# Altium integrated library TI Logic Switch.IntLib: 125 symbols (part 2 of 3)
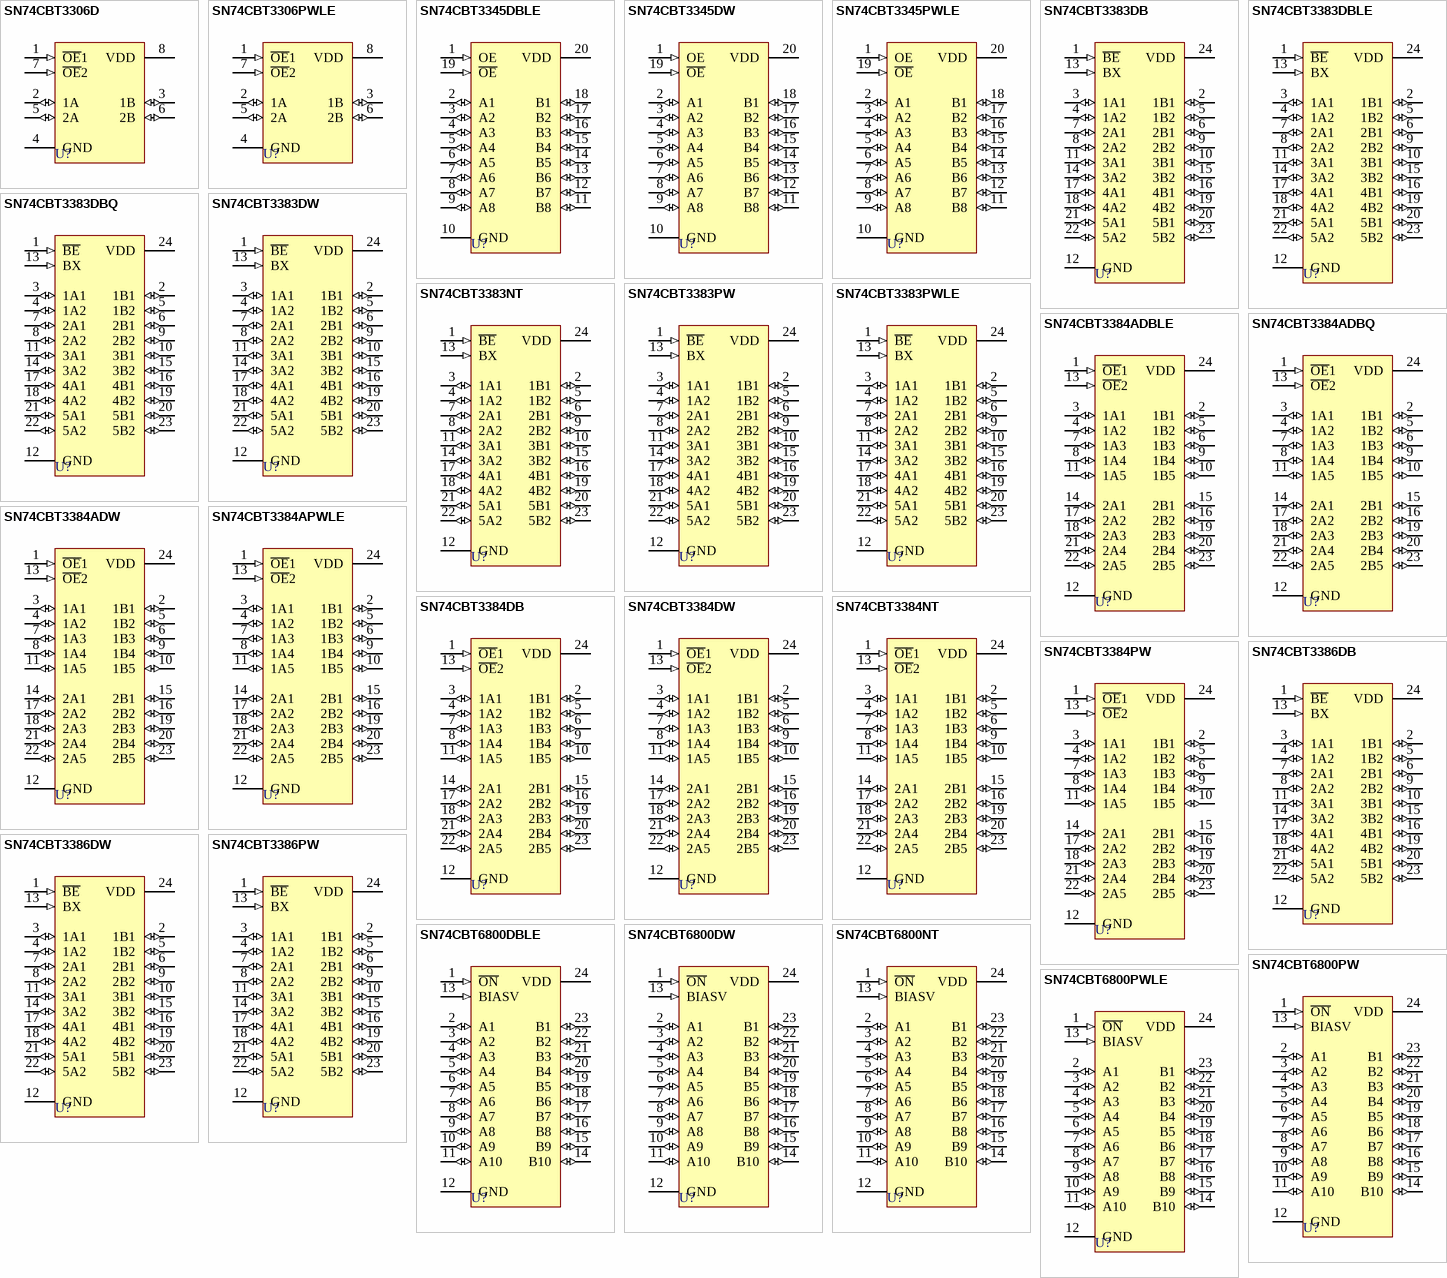
[diagram p6: symbols SN74CBT3306D to SN74CBT6800PWLE]

## SN74CBT3384NT
designator U?
Dual 5-Bit Crossbar Switch; Published: 8-Jun-2000; LatestRevisionDate: 04-Mar-2005; LatestRevisionNote: Stylized 3D Model Added.; DatasheetVersion: Apr-1993; PackageVersion: Oct-1994; PackageReference: NT024; Publisher: Altium Limited; PackageDescription: DIP; 24 Leads; Row Spacing 7.62 mm; Pitch 2.54 mm; Code_JEDEC: MS-001-AF; ComponentLink1Description: Manufacturer Link; ComponentLink1URL: http://www.ti.com/
footprint NT024 (DIP; 24 Leads; Row Spacing 7.62 mm; Pitch 2.54 mm)
3D model NT024 (DIP; 24 Leads; Row Spacing 7.62 mm; Pitch 2.54 mm)
pins: 1 ~{OE}1 (in), 2 1B1 (io), 3 1A1 (io), 4 1A2 (io), 5 1B2 (io), 6 1B3 (io), 7 1A3 (io), 8 1A4 (io), 9 1B4 (io), 10 1B5 (io), 11 1A5 (io), 12 GND (power), 13 ~{OE}2 (in), 14 2A1 (io), 15 2B1 (io), 16 2B2 (io), 17 2A2 (io), 18 2A3 (io), 19 2B3 (io), 20 2B4 (io), 21 2A4 (io), 22 2A5 (io), 23 2B5 (io), 24 VDD (power)

## SN74CBT3384PW
designator U?
10-Bit Crossbar Switch; ComponentAvailability: Obsolete; Published: 8-Jun-2000; LatestRevisionDate: 16-Oct-2006; LatestRevisionNote: IPC-7351 Footprint Added.; DatasheetVersion: Jun-1994; PackageVersion: Feb-1999; PackageReference: PW024; Publisher: Altium Limited; PackageDescription: 24-Pin Thin Small Outline Package 0.65 mm Pitch; ComponentLink1Description: Manufacturer Link; ComponentLink1URL: http://www.ti.com/
footprint PW024_N (TSOP, 24-Leads, Body 7.8x4.4mm, Pitch 0.65mm, IPC Medium Density)
footprint PW024_L (TSOP, 24-Leads, Body 7.8x4.4mm, Pitch 0.65mm, IPC High Density)
footprint PW024_M (TSOP, 24-Leads, Body 7.8x4.4mm, Pitch 0.65mm, IPC Low Density)
3D model PW024 (24-Pin Thin Small Outline Package 0.65 mm Pitch)
pins: 1 ~{OE}1 (in), 2 1B1 (io), 3 1A1 (io), 4 1A2 (io), 5 1B2 (io), 6 1B3 (io), 7 1A3 (io), 8 1A4 (io), 9 1B4 (io), 10 1B5 (io), 11 1A5 (io), 12 GND (power), 13 ~{OE}2 (in), 14 2A1 (io), 15 2B1 (io), 16 2B2 (io), 17 2A2 (io), 18 2A3 (io), 19 2B3 (io), 20 2B4 (io), 21 2A4 (io), 22 2A5 (io), 23 2B5 (io), 24 VDD (power)

## SN74CBT3386DB
designator U?
10-Bit FET Bus-Exchange Switch with Extended Voltage Range; Published: 8-Jun-2000; LatestRevisionDate: 16-Oct-2006; LatestRevisionNote: IPC-7351 Footprint Added.; DatasheetVersion: May-1998; PackageVersion: May-1999; PackageReference: DB024; Publisher: Altium Limited; PackageDescription: 24-Pin Plastic Small Outline Package 0.65 mm Pitch; Code_JEDEC: MO-150-AG; Code_IPC: SOP65P780-24; ComponentLink1Description: Manufacturer Link; ComponentLink1URL: http://www.ti.com/
footprint DB024_N (SOP, 24-Leads, Body 8.2x5.3mm, Pitch 0.65mm, IPC Medium Density)
footprint DB024_L (SOP, 24-Leads, Body 8.2x5.3mm, Pitch 0.65mm, IPC High Density)
footprint DB024_M (SOP, 24-Leads, Body 8.2x5.3mm, Pitch 0.65mm, IPC Low Density)
3D model DB024 (24-Pin Plastic Small Outline Package 0.65 mm Pitch)
pins: 1 ~{BE} (in), 2 1B1 (io), 3 1A1 (io), 4 1A2 (io), 5 1B2 (io), 6 2B1 (io), 7 2A1 (io), 8 2A2 (io), 9 2B2 (io), 10 3B1 (io), 11 3A1 (io), 12 GND (power), 13 BX (in), 14 3A2 (io), 15 3B2 (io), 16 4B1 (io), 17 4A1 (io), 18 4A2 (io), 19 4B2 (io), 20 5B1 (io), 21 5A1 (io), 22 5A2 (io), 23 5B2 (io), 24 VDD (power)

## SN74CBT3386DW
designator U?
10-Bit FET Bus-Exchange Switch with Extended Voltage Range; Published: 8-Jun-2000; LatestRevisionDate: 13-Apr-2006; LatestRevisionNote: IPC-7351 Footprint Added.; DatasheetVersion: May-1998; PackageVersion: Mar-2000; PackageReference: DW024; Publisher: Altium Limited; PackageDescription: 24-Pin Plastic Small Outline Integrated Circuit 1.27 mm Pitch; Code_JEDEC: MS-013; ComponentLink1Description: Manufacturer Link; ComponentLink1URL: http://www.ti.com/
footprint DW024_N (SOIC, 24-Leads, Body 15.4x7.5mm, Pitch 1.27mm, IPC Medium Density)
footprint DW024_L (SOIC, 24-Leads, Body 15.4x7.5mm, Pitch 1.27mm, IPC High Density)
footprint DW024_M (SOIC, 24-Leads, Body 15.4x7.5mm, Pitch 1.27mm, IPC Low Density)
3D model DW024 (24-Pin Plastic Small Outline Integrated Circuit 1.27 mm Pitch)
pins: 1 ~{BE} (in), 2 1B1 (io), 3 1A1 (io), 4 1A2 (io), 5 1B2 (io), 6 2B1 (io), 7 2A1 (io), 8 2A2 (io), 9 2B2 (io), 10 3B1 (io), 11 3A1 (io), 12 GND (power), 13 BX (in), 14 3A2 (io), 15 3B2 (io), 16 4B1 (io), 17 4A1 (io), 18 4A2 (io), 19 4B2 (io), 20 5B1 (io), 21 5A1 (io), 22 5A2 (io), 23 5B2 (io), 24 VDD (power)

## SN74CBT3386PW
designator U?
10-Bit FET Bus-Exchange Switch with Extended Voltage Range; Published: 8-Jun-2000; LatestRevisionDate: 16-Oct-2006; LatestRevisionNote: IPC-7351 Footprint Added.; DatasheetVersion: May-1998; PackageVersion: Feb-1999; PackageReference: PW024; Publisher: Altium Limited; PackageDescription: 24-Pin Thin Small Outline Package 0.65 mm Pitch; ComponentLink1Description: Manufacturer Link; ComponentLink1URL: http://www.ti.com/
footprint PW024_N (TSOP, 24-Leads, Body 7.8x4.4mm, Pitch 0.65mm, IPC Medium Density)
footprint PW024_L (TSOP, 24-Leads, Body 7.8x4.4mm, Pitch 0.65mm, IPC High Density)
footprint PW024_M (TSOP, 24-Leads, Body 7.8x4.4mm, Pitch 0.65mm, IPC Low Density)
3D model PW024 (24-Pin Thin Small Outline Package 0.65 mm Pitch)
pins: 1 ~{BE} (in), 2 1B1 (io), 3 1A1 (io), 4 1A2 (io), 5 1B2 (io), 6 2B1 (io), 7 2A1 (io), 8 2A2 (io), 9 2B2 (io), 10 3B1 (io), 11 3A1 (io), 12 GND (power), 13 BX (in), 14 3A2 (io), 15 3B2 (io), 16 4B1 (io), 17 4A1 (io), 18 4A2 (io), 19 4B2 (io), 20 5B1 (io), 21 5A1 (io), 22 5A2 (io), 23 5B2 (io), 24 VDD (power)

## SN74CBT6800DBLE
designator U?
10-Bit FET Bus Switch with Precharged Outputs for Live Insertion; Published: 8-Jun-2000; LatestRevisionDate: 16-Oct-2006; LatestRevisionNote: IPC-7351 Footprint Added.; DatasheetVersion: Dec-1998; PackageVersion: May-1999; PackageReference: DB024; Publisher: Altium Limited; PackageDescription: 24-Pin Plastic Small Outline Package 0.65 mm Pitch; Code_JEDEC: MO-150-AG; Code_IPC: SOP65P780-24; ComponentLink1Description: Manufacturer Link; ComponentLink1URL: http://www.ti.com/
footprint DB024_N (SOP, 24-Leads, Body 8.2x5.3mm, Pitch 0.65mm, IPC Medium Density)
footprint DB024_L (SOP, 24-Leads, Body 8.2x5.3mm, Pitch 0.65mm, IPC High Density)
footprint DB024_M (SOP, 24-Leads, Body 8.2x5.3mm, Pitch 0.65mm, IPC Low Density)
3D model DB024 (24-Pin Plastic Small Outline Package 0.65 mm Pitch)
pins: 1 ~{ON} (in), 2 A1 (io), 3 A2 (io), 4 A3 (io), 5 A4 (io), 6 A5 (io), 7 A6 (io), 8 A7 (io), 9 A8 (io), 10 A9 (io), 11 A10 (io), 12 GND (power), 13 BIASV (in), 14 B10 (io), 15 B9 (io), 16 B8 (io), 17 B7 (io), 18 B6 (io), 19 B5 (io), 20 B4 (io), 21 B3 (io), 22 B2 (io), 23 B1 (io), 24 VDD (power)

## SN74CBT6800DW
designator U?
10-Bit FET Bus Switch with Precharged Outputs for Live Insertion; Published: 8-Jun-2000; LatestRevisionDate: 13-Apr-2006; LatestRevisionNote: IPC-7351 Footprint Added.; DatasheetVersion: Dec-1998; PackageVersion: Mar-2000; PackageReference: DW024; Publisher: Altium Limited; PackageDescription: 24-Pin Plastic Small Outline Integrated Circuit 1.27 mm Pitch; Code_JEDEC: MS-013; ComponentLink1Description: Manufacturer Link; ComponentLink1URL: http://www.ti.com/
footprint DW024_N (SOIC, 24-Leads, Body 15.4x7.5mm, Pitch 1.27mm, IPC Medium Density)
footprint DW024_L (SOIC, 24-Leads, Body 15.4x7.5mm, Pitch 1.27mm, IPC High Density)
footprint DW024_M (SOIC, 24-Leads, Body 15.4x7.5mm, Pitch 1.27mm, IPC Low Density)
3D model DW024 (24-Pin Plastic Small Outline Integrated Circuit 1.27 mm Pitch)
pins: 1 ~{ON} (in), 2 A1 (io), 3 A2 (io), 4 A3 (io), 5 A4 (io), 6 A5 (io), 7 A6 (io), 8 A7 (io), 9 A8 (io), 10 A9 (io), 11 A10 (io), 12 GND (power), 13 BIASV (in), 14 B10 (io), 15 B9 (io), 16 B8 (io), 17 B7 (io), 18 B6 (io), 19 B5 (io), 20 B4 (io), 21 B3 (io), 22 B2 (io), 23 B1 (io), 24 VDD (power)

## SN74CBT6800NT
designator U?
10-Bit Crossover Switch with Precharged Outputs for Live Insertion; Published: 8-Jun-2000; LatestRevisionDate: 04-Mar-2005; LatestRevisionNote: Stylized 3D Model Added.; DatasheetVersion: Apr-1993; PackageVersion: Oct-1994; PackageReference: NT024; Publisher: Altium Limited; PackageDescription: DIP; 24 Leads; Row Spacing 7.62 mm; Pitch 2.54 mm; Code_JEDEC: MS-001-AF; ComponentLink1Description: Manufacturer Link; ComponentLink1URL: http://www.ti.com/
footprint NT024 (DIP; 24 Leads; Row Spacing 7.62 mm; Pitch 2.54 mm)
3D model NT024 (DIP; 24 Leads; Row Spacing 7.62 mm; Pitch 2.54 mm)
pins: 1 ~{ON} (in), 2 A1 (io), 3 A2 (io), 4 A3 (io), 5 A4 (io), 6 A5 (io), 7 A6 (io), 8 A7 (io), 9 A8 (io), 10 A9 (io), 11 A10 (io), 12 GND (power), 13 BIASV (in), 14 B10 (io), 15 B9 (io), 16 B8 (io), 17 B7 (io), 18 B6 (io), 19 B5 (io), 20 B4 (io), 21 B3 (io), 22 B2 (io), 23 B1 (io), 24 VDD (power)

## SN74CBT6800PW
designator U?
10-Bit FET Bus Switch with Precharged Outputs for Live Insertion; Published: 8-Jun-2000; LatestRevisionDate: 16-Oct-2006; LatestRevisionNote: IPC-7351 Footprint Added.; DatasheetVersion: Dec-1998; PackageVersion: Feb-1999; PackageReference: PW024; Publisher: Altium Limited; PackageDescription: 24-Pin Thin Small Outline Package 0.65 mm Pitch; ComponentLink1Description: Manufacturer Link; ComponentLink1URL: http://www.ti.com/
footprint PW024_N (TSOP, 24-Leads, Body 7.8x4.4mm, Pitch 0.65mm, IPC Medium Density)
footprint PW024_L (TSOP, 24-Leads, Body 7.8x4.4mm, Pitch 0.65mm, IPC High Density)
footprint PW024_M (TSOP, 24-Leads, Body 7.8x4.4mm, Pitch 0.65mm, IPC Low Density)
3D model PW024 (24-Pin Thin Small Outline Package 0.65 mm Pitch)
pins: 1 ~{ON} (in), 2 A1 (io), 3 A2 (io), 4 A3 (io), 5 A4 (io), 6 A5 (io), 7 A6 (io), 8 A7 (io), 9 A8 (io), 10 A9 (io), 11 A10 (io), 12 GND (power), 13 BIASV (in), 14 B10 (io), 15 B9 (io), 16 B8 (io), 17 B7 (io), 18 B6 (io), 19 B5 (io), 20 B4 (io), 21 B3 (io), 22 B2 (io), 23 B1 (io), 24 VDD (power)

## SN74CBT6800PWLE
designator U?
10-Bit FET Bus Switch with Precharged Outputs for Live Insertion; Published: 8-Jun-2000; LatestRevisionDate: 16-Oct-2006; LatestRevisionNote: IPC-7351 Footprint Added.; DatasheetVersion: Dec-1998; PackageVersion: Feb-1999; PackageReference: PW024; Publisher: Altium Limited; PackageDescription: 24-Pin Thin Small Outline Package 0.65 mm Pitch; ComponentLink1Description: Manufacturer Link; ComponentLink1URL: http://www.ti.com/
footprint PW024_N (TSOP, 24-Leads, Body 7.8x4.4mm, Pitch 0.65mm, IPC Medium Density)
footprint PW024_L (TSOP, 24-Leads, Body 7.8x4.4mm, Pitch 0.65mm, IPC High Density)
footprint PW024_M (TSOP, 24-Leads, Body 7.8x4.4mm, Pitch 0.65mm, IPC Low Density)
3D model PW024 (24-Pin Thin Small Outline Package 0.65 mm Pitch)
pins: 1 ~{ON} (in), 2 A1 (io), 3 A2 (io), 4 A3 (io), 5 A4 (io), 6 A5 (io), 7 A6 (io), 8 A7 (io), 9 A8 (io), 10 A9 (io), 11 A10 (io), 12 GND (power), 13 BIASV (in), 14 B10 (io), 15 B9 (io), 16 B8 (io), 17 B7 (io), 18 B6 (io), 19 B5 (io), 20 B4 (io), 21 B3 (io), 22 B2 (io), 23 B1 (io), 24 VDD (power)

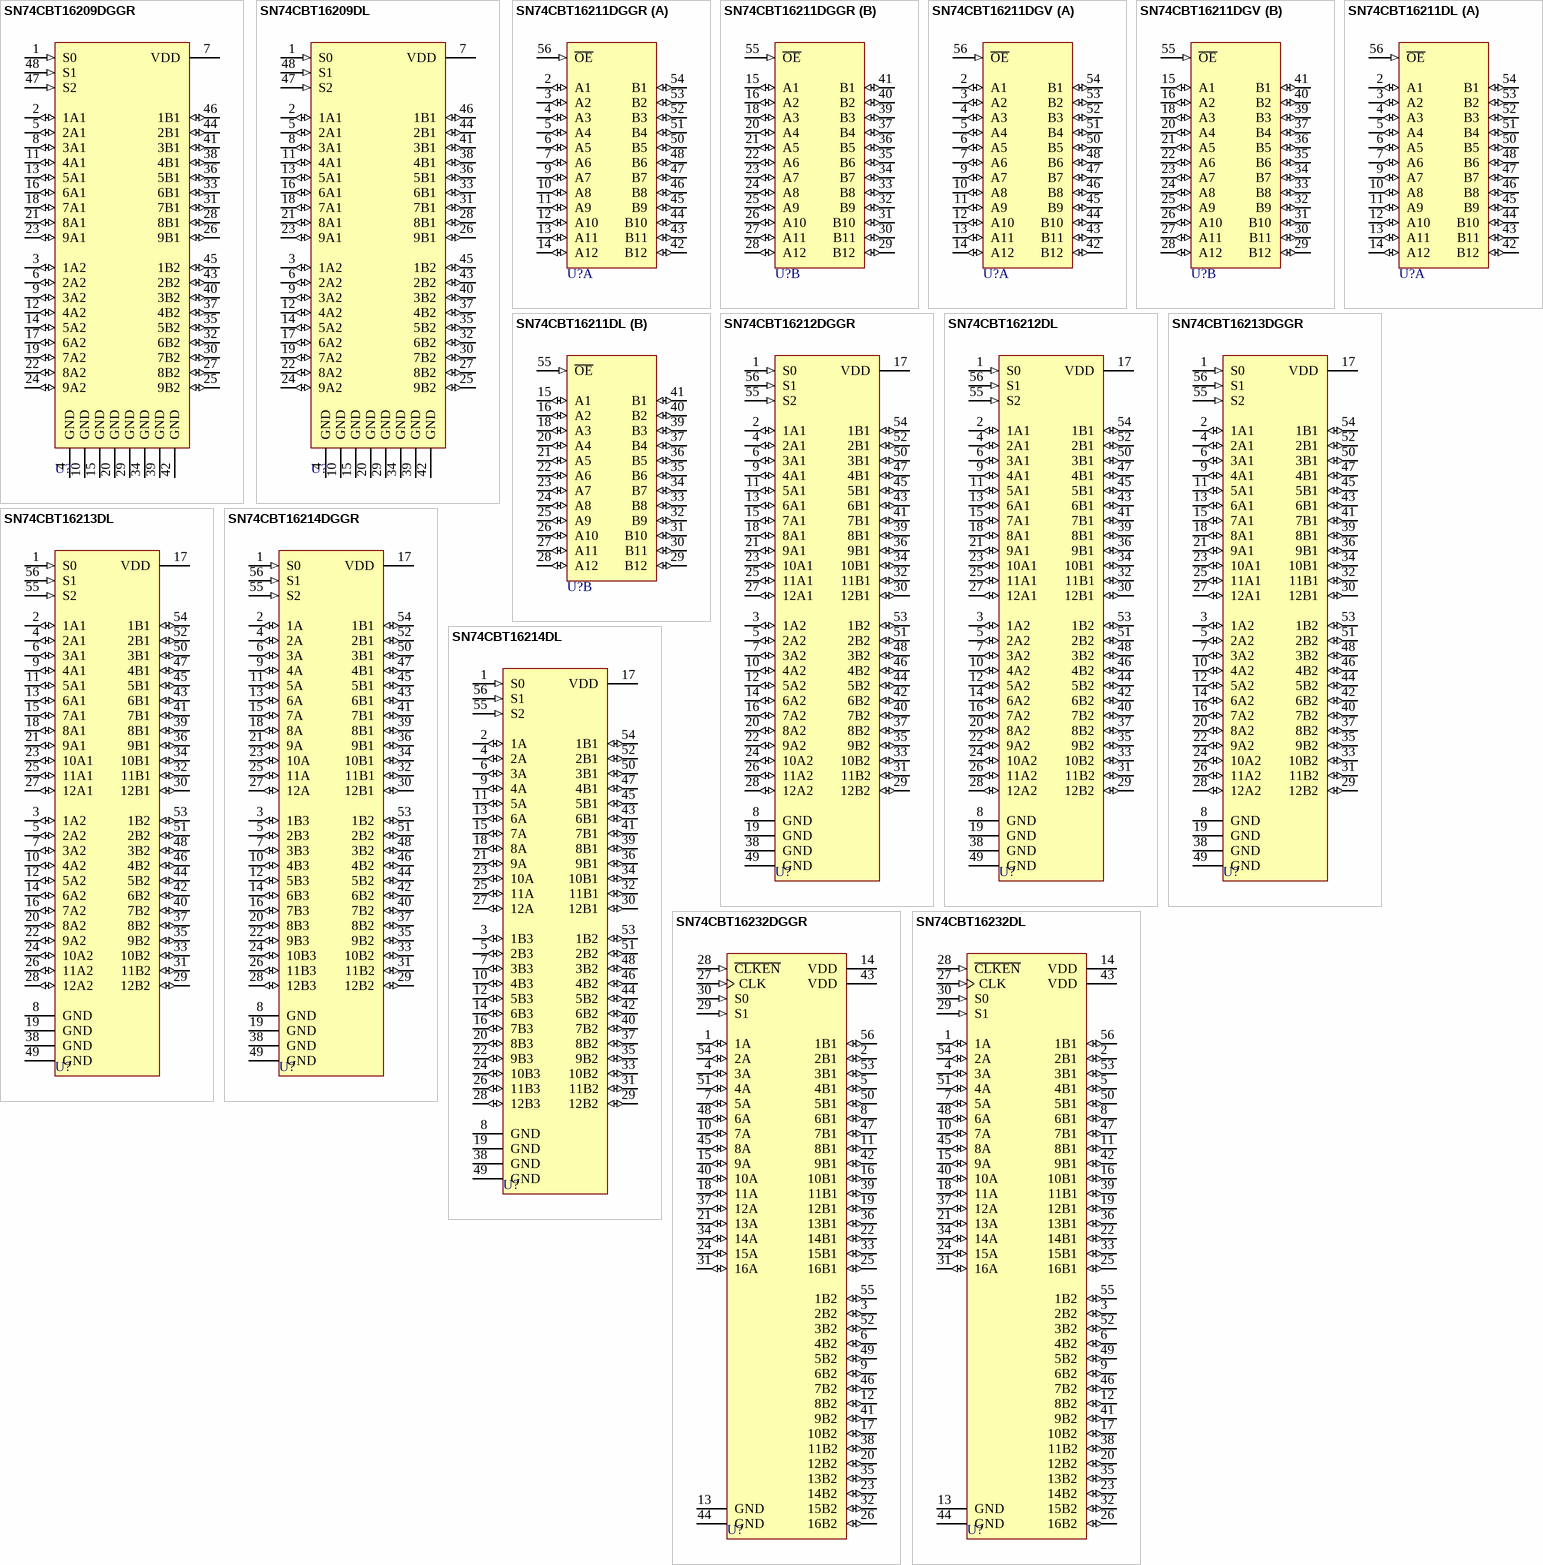
[diagram p2: symbols SN74CBT16209DGGR to SN74CBT16232DL]

## SN74CBT16209DGGR
designator U?
18-Bit Bus-Exchange Switch; ComponentAvailability: Obsolete; Published: 8-Jun-2000; LatestRevisionDate: 16-Oct-2006; LatestRevisionNote: IPC-7351 Footprint Added.; DatasheetVersion: Jun-1996; PackageVersion: Jan-1998; PackageReference: DGG048; Publisher: Altium Limited; PackageDescription: 48-Pin Thin Shrink Small Outline Package 0.5 mm Pitch; ComponentLink1Description: Manufacturer Link; ComponentLink1URL: http://www.ti.com/; ComponentLink2Description: Datasheet; ComponentLink2URL: http://www-s.ti.com/sc/ds/sn54cbt16209.pdf
footprint DGG048_N (TSSOP, 48-Leads, Body 12.5x6.1mm, Pitch 0.5mm, IPC Medium Density)
footprint DGG048_L (TSSOP, 48-Leads, Body 12.5x6.1mm, Pitch 0.5mm, IPC High Density)
footprint DGG048_M (TSSOP, 48-Leads, Body 12.5x6.1mm, Pitch 0.5mm, IPC Low Density)
3D model DGG048 (48-Pin Thin Shrink Small Outline Package 0.5 mm Pitch)
pins: 1 S0 (in), 2 1A1 (io), 3 1A2 (io), 4 GND (power), 5 2A1 (io), 6 2A2 (io), 7 VDD (power), 8 3A1 (io), 9 3A2 (io), 10 GND (power), 11 4A1 (io), 12 4A2 (io), 13 5A1 (io), 14 5A2 (io), 15 GND (power), 16 6A1 (io), 17 6A2 (io), 18 7A1 (io), 19 7A2 (io), 20 GND (power), 21 8A1 (io), 22 8A2 (io), 23 9A1 (io), 24 9A2 (io), 25 9B2 (io), 26 9B1 (io), 27 8B2 (io), 28 8B1 (io), 29 GND (power), 30 7B2 (io), 31 7B1 (io), 32 6B2 (io), 33 6B1 (io), 34 GND (power), 35 5B2 (io), 36 5B1 (io), 37 4B2 (io), 38 4B1 (io), 39 GND (power), 40 3B2 (io), 41 3B1 (io), 42 GND (power), 43 2B2 (io), 44 2B1 (io), 45 1B2 (io), 46 1B1 (io), 47 S2 (in), 48 S1 (in)

## SN74CBT16209DL
designator U?
18-Bit Bus-Exchange Switch; ComponentAvailability: Obsolete; Published: 8-Jun-2000; LatestRevisionDate: 16-Oct-2006; LatestRevisionNote: IPC-7351 Footprint Added.; DatasheetVersion: Jun-1996; PackageVersion: Dec-2001; PackageReference: DL048; Publisher: Altium Limited; PackageDescription: 48-Pin Small Outline Package 0.635 mm Pitch; Code_JEDEC: MO-118-AA; Code_IPC: SOP635P1035-48; ComponentLink1Description: Manufacturer Link; ComponentLink1URL: http://www.ti.com/; ComponentLink2Description: Datasheet; ComponentLink2URL: http://www-s.ti.com/sc/ds/sn54cbt16209.pdf
footprint DL048_N (SOP, 48-Leads, Body 15.9x7.5mm, Pitch 0.635mm, IPC Medium Density)
footprint DL048_L (SOP, 48-Leads, Body 15.9x7.5mm, Pitch 0.635mm, IPC High Density)
footprint DL048_M (SOP, 48-Leads, Body 15.9x7.5mm, Pitch 0.635mm, IPC Low Density)
3D model DL048 (48-Pin Small Outline Package 0.635 mm Pitch)
pins: 1 S0 (in), 2 1A1 (io), 3 1A2 (io), 4 GND (power), 5 2A1 (io), 6 2A2 (io), 7 VDD (power), 8 3A1 (io), 9 3A2 (io), 10 GND (power), 11 4A1 (io), 12 4A2 (io), 13 5A1 (io), 14 5A2 (io), 15 GND (power), 16 6A1 (io), 17 6A2 (io), 18 7A1 (io), 19 7A2 (io), 20 GND (power), 21 8A1 (io), 22 8A2 (io), 23 9A1 (io), 24 9A2 (io), 25 9B2 (io), 26 9B1 (io), 27 8B2 (io), 28 8B1 (io), 29 GND (power), 30 7B2 (io), 31 7B1 (io), 32 6B2 (io), 33 6B1 (io), 34 GND (power), 35 5B2 (io), 36 5B1 (io), 37 4B2 (io), 38 4B1 (io), 39 GND (power), 40 3B2 (io), 41 3B1 (io), 42 GND (power), 43 2B2 (io), 44 2B1 (io), 45 1B2 (io), 46 1B1 (io), 47 S2 (in), 48 S1 (in)

## SN74CBT16211DGGR
designator U?
24-Bit Bus Switch; Note: Pin(s) 1 "No Connection" and not drawn.; ComponentAvailability: Obsolete; Published: 8-Jun-2000; LatestRevisionDate: 16-Oct-2006; LatestRevisionNote: IPC-7351 Footprint Added.; DatasheetVersion: Apr-1997; PackageVersion: Jan-1998; PackageReference: DGG056; Publisher: Altium Limited; PackageDescription: 56-Pin Thin Shrink Small Outline Package 0.5 mm Pitch; Code_IPC: TSSOP50P810-56; ComponentLink1Description: Manufacturer Link; ComponentLink1URL: http://www.ti.com/
footprint DGG056_N (TSSOP, 56-Leads, Body 14x6.1mm, Pitch 0.5mm, IPC Medium Density)
footprint DGG056_L (TSSOP, 56-Leads, Body 14x6.1mm, Pitch 0.5mm, IPC High Density)
footprint DGG056_M (TSSOP, 56-Leads, Body 14x6.1mm, Pitch 0.5mm, IPC Low Density)
3D model DGG056 (56-Pin Thin Shrink Small Outline Package 0.5 mm Pitch)
pins on every part: 8 GND (power) hidden to GND, 17 VDD (power) hidden to VDD, 19 GND (power) hidden to GND, 38 GND (power) hidden to GND, 49 GND (power) hidden to GND
part A pins: 2 A1 (io), 3 A2 (io), 4 A3 (io), 5 A4 (io), 6 A5 (io), 7 A6 (io), 9 A7 (io), 10 A8 (io), 11 A9 (io), 12 A10 (io), 13 A11 (io), 14 A12 (io), 42 B12 (io), 43 B11 (io), 44 B10 (io), 45 B9 (io), 46 B8 (io), 47 B7 (io), 48 B6 (io), 50 B5 (io), 51 B4 (io), 52 B3 (io), 53 B2 (io), 54 B1 (io), 56 ~{OE} (in)
part B pins: 15 A1 (io), 16 A2 (io), 18 A3 (io), 20 A4 (io), 21 A5 (io), 22 A6 (io), 23 A7 (io), 24 A8 (io), 25 A9 (io), 26 A10 (io), 27 A11 (io), 28 A12 (io), 29 B12 (io), 30 B11 (io), 31 B10 (io), 32 B9 (io), 33 B8 (io), 34 B7 (io), 35 B6 (io), 36 B5 (io), 37 B4 (io), 39 B3 (io), 40 B2 (io), 41 B1 (io), 55 ~{OE} (in)

## SN74CBT16211DGV
designator U?
24-Bit Bus Switch; Note: Pin(s) 1 "No Connection" and not drawn.; ComponentAvailability: Obsolete; Published: 8-Jun-2000; LatestRevisionDate: 16-Oct-2006; LatestRevisionNote: IPC-7351 Footprint Added.; DatasheetVersion: Apr-1997; PackageVersion: Mar-1999; PackageReference: DGV056; Publisher: Altium Limited; PackageDescription: 56-Pin Thin Shrink Small Outline Package 0.4 mm Pitch; Code_JEDEC: MO-194; ComponentLink1Description: Manufacturer Link; ComponentLink1URL: http://www.ti.com/
footprint DGV056_N (TSSOP, 56-Leads, Body 11.3x4.4mm, Pitch 0.4mm, IPC Medium Density)
footprint DGV056_L (TSSOP, 56-Leads, Body 11.3x4.4mm, Pitch 0.4mm, IPC High Density)
footprint DGV056_M (TSSOP, 56-Leads, Body 11.3x4.4mm, Pitch 0.4mm, IPC Low Density)
3D model DGV056 (56-Pin Thin Shrink Small Outline Package 0.4 mm Pitch)
pins on every part: 8 GND (power) hidden to GND, 17 VDD (power) hidden to VDD, 19 GND (power) hidden to GND, 38 GND (power) hidden to GND, 49 GND (power) hidden to GND
part A pins: 2 A1 (io), 3 A2 (io), 4 A3 (io), 5 A4 (io), 6 A5 (io), 7 A6 (io), 9 A7 (io), 10 A8 (io), 11 A9 (io), 12 A10 (io), 13 A11 (io), 14 A12 (io), 42 B12 (io), 43 B11 (io), 44 B10 (io), 45 B9 (io), 46 B8 (io), 47 B7 (io), 48 B6 (io), 50 B5 (io), 51 B4 (io), 52 B3 (io), 53 B2 (io), 54 B1 (io), 56 ~{OE} (in)
part B pins: 15 A1 (io), 16 A2 (io), 18 A3 (io), 20 A4 (io), 21 A5 (io), 22 A6 (io), 23 A7 (io), 24 A8 (io), 25 A9 (io), 26 A10 (io), 27 A11 (io), 28 A12 (io), 29 B12 (io), 30 B11 (io), 31 B10 (io), 32 B9 (io), 33 B8 (io), 34 B7 (io), 35 B6 (io), 36 B5 (io), 37 B4 (io), 39 B3 (io), 40 B2 (io), 41 B1 (io), 55 ~{OE} (in)

## SN74CBT16211DL
designator U?
24-Bit Bus Switch; Note: Pin(s) 1 "No Connection" and not drawn.; ComponentAvailability: Obsolete; Published: 8-Jun-2000; LatestRevisionDate: 16-Oct-2006; LatestRevisionNote: IPC-7351 Footprint Added.; DatasheetVersion: Apr-1997; PackageVersion: Dec-2001; PackageReference: DL056; Publisher: Altium Limited; PackageDescription: 56-Pin Small Outline Package 0.635 mm Pitch; Code_JEDEC: MO-118-AB; Code_IPC: SOP635P1035-56; ComponentLink1Description: Manufacturer Link; ComponentLink1URL: http://www.ti.com/
footprint DL056_N (SOP, 56-Leads, Body 18.4x7.5mm, Pitch 0.635mm, IPC Medium Density)
footprint DL056_L (SOP, 56-Leads, Body 18.4x7.5mm, Pitch 0.635mm, IPC High Density)
footprint DL056_M (SOP, 56-Leads, Body 18.4x7.5mm, Pitch 0.635mm, IPC Low Density)
3D model DL056 (56-Pin Small Outline Package 0.635 mm Pitch)
pins on every part: 8 GND (power) hidden to GND, 17 VDD (power) hidden to VDD, 19 GND (power) hidden to GND, 38 GND (power) hidden to GND, 49 GND (power) hidden to GND
part A pins: 2 A1 (io), 3 A2 (io), 4 A3 (io), 5 A4 (io), 6 A5 (io), 7 A6 (io), 9 A7 (io), 10 A8 (io), 11 A9 (io), 12 A10 (io), 13 A11 (io), 14 A12 (io), 42 B12 (io), 43 B11 (io), 44 B10 (io), 45 B9 (io), 46 B8 (io), 47 B7 (io), 48 B6 (io), 50 B5 (io), 51 B4 (io), 52 B3 (io), 53 B2 (io), 54 B1 (io), 56 ~{OE} (in)
part B pins: 15 A1 (io), 16 A2 (io), 18 A3 (io), 20 A4 (io), 21 A5 (io), 22 A6 (io), 23 A7 (io), 24 A8 (io), 25 A9 (io), 26 A10 (io), 27 A11 (io), 28 A12 (io), 29 B12 (io), 30 B11 (io), 31 B10 (io), 32 B9 (io), 33 B8 (io), 34 B7 (io), 35 B6 (io), 36 B5 (io), 37 B4 (io), 39 B3 (io), 40 B2 (io), 41 B1 (io), 55 ~{OE} (in)

## SN74CBT16212DGGR
designator U?
24-Bit Bus-Exchange Switch; ComponentAvailability: Obsolete; Published: 8-Jun-2000; LatestRevisionDate: 16-Oct-2006; LatestRevisionNote: IPC-7351 Footprint Added.; DatasheetVersion: Aug-1996; PackageVersion: Jan-1998; PackageReference: DGG056; Publisher: Altium Limited; PackageDescription: 56-Pin Thin Shrink Small Outline Package 0.5 mm Pitch; Code_IPC: TSSOP50P810-56; ComponentLink1Description: Manufacturer Link; ComponentLink1URL: http://www.ti.com/
footprint DGG056_N (TSSOP, 56-Leads, Body 14x6.1mm, Pitch 0.5mm, IPC Medium Density)
footprint DGG056_L (TSSOP, 56-Leads, Body 14x6.1mm, Pitch 0.5mm, IPC High Density)
footprint DGG056_M (TSSOP, 56-Leads, Body 14x6.1mm, Pitch 0.5mm, IPC Low Density)
3D model DGG056 (56-Pin Thin Shrink Small Outline Package 0.5 mm Pitch)
pins: 1 S0 (in), 2 1A1 (io), 3 1A2 (io), 4 2A1 (io), 5 2A2 (io), 6 3A1 (io), 7 3A2 (io), 8 GND (power), 9 4A1 (io), 10 4A2 (io), 11 5A1 (io), 12 5A2 (io), 13 6A1 (io), 14 6A2 (io), 15 7A1 (io), 16 7A2 (io), 17 VDD (power), 18 8A1 (io), 19 GND (power), 20 8A2 (io), 21 9A1 (io), 22 9A2 (io), 23 10A1 (io), 24 10A2 (io), 25 11A1 (io), 26 11A2 (io), 27 12A1 (io), 28 12A2 (io), 29 12B2 (io), 30 12B1 (io), 31 11B2 (io), 32 11B1 (io), 33 10B2 (io), 34 10B1 (io), 35 9B2 (io), 36 9B1 (io), 37 8B2 (io), 38 GND (power), 39 8B1 (io), 40 7B2 (io), 41 7B1 (io), 42 6B2 (io), 43 6B1 (io), 44 5B2 (io), 45 5B1 (io), 46 4B2 (io), 47 4B1 (io), 48 3B2 (io), 49 GND (power), 50 3B1 (io), 51 2B2 (io), 52 2B1 (io), 53 1B2 (io), 54 1B1 (io), 55 S2 (in), 56 S1 (in)

## SN74CBT16212DL
designator U?
24-Bit Bus-Exchange Switch; ComponentAvailability: Obsolete; Published: 8-Jun-2000; LatestRevisionDate: 16-Oct-2006; LatestRevisionNote: IPC-7351 Footprint Added.; DatasheetVersion: Aug-1996; PackageVersion: Dec-2001; PackageReference: DL056; Publisher: Altium Limited; PackageDescription: 56-Pin Small Outline Package 0.635 mm Pitch; Code_JEDEC: MO-118-AB; Code_IPC: SOP635P1035-56; ComponentLink1Description: Manufacturer Link; ComponentLink1URL: http://www.ti.com/
footprint DL056_N (SOP, 56-Leads, Body 18.4x7.5mm, Pitch 0.635mm, IPC Medium Density)
footprint DL056_L (SOP, 56-Leads, Body 18.4x7.5mm, Pitch 0.635mm, IPC High Density)
footprint DL056_M (SOP, 56-Leads, Body 18.4x7.5mm, Pitch 0.635mm, IPC Low Density)
3D model DL056 (56-Pin Small Outline Package 0.635 mm Pitch)
pins: 1 S0 (in), 2 1A1 (io), 3 1A2 (io), 4 2A1 (io), 5 2A2 (io), 6 3A1 (io), 7 3A2 (io), 8 GND (power), 9 4A1 (io), 10 4A2 (io), 11 5A1 (io), 12 5A2 (io), 13 6A1 (io), 14 6A2 (io), 15 7A1 (io), 16 7A2 (io), 17 VDD (power), 18 8A1 (io), 19 GND (power), 20 8A2 (io), 21 9A1 (io), 22 9A2 (io), 23 10A1 (io), 24 10A2 (io), 25 11A1 (io), 26 11A2 (io), 27 12A1 (io), 28 12A2 (io), 29 12B2 (io), 30 12B1 (io), 31 11B2 (io), 32 11B1 (io), 33 10B2 (io), 34 10B1 (io), 35 9B2 (io), 36 9B1 (io), 37 8B2 (io), 38 GND (power), 39 8B1 (io), 40 7B2 (io), 41 7B1 (io), 42 6B2 (io), 43 6B1 (io), 44 5B2 (io), 45 5B1 (io), 46 4B2 (io), 47 4B1 (io), 48 3B2 (io), 49 GND (power), 50 3B1 (io), 51 2B2 (io), 52 2B1 (io), 53 1B2 (io), 54 1B1 (io), 55 S2 (in), 56 S1 (in)

## SN74CBT16213DGGR
designator U?
24-Bit FET Bus-Exchange Switch; Published: 8-Jun-2000; LatestRevisionDate: 16-Oct-2006; LatestRevisionNote: IPC-7351 Footprint Added.; DatasheetVersion: May-1998; PackageVersion: Jan-1998; PackageReference: DGG056; Publisher: Altium Limited; PackageDescription: 56-Pin Thin Shrink Small Outline Package 0.5 mm Pitch; Code_IPC: TSSOP50P810-56; ComponentLink1Description: Manufacturer Link; ComponentLink1URL: http://www.ti.com/; ComponentLink2Description: Datasheet; ComponentLink2URL: http://www-s.ti.com/sc/ds/sn74cbt16213.pdf
footprint DGG056_N (TSSOP, 56-Leads, Body 14x6.1mm, Pitch 0.5mm, IPC Medium Density)
footprint DGG056_L (TSSOP, 56-Leads, Body 14x6.1mm, Pitch 0.5mm, IPC High Density)
footprint DGG056_M (TSSOP, 56-Leads, Body 14x6.1mm, Pitch 0.5mm, IPC Low Density)
3D model DGG056 (56-Pin Thin Shrink Small Outline Package 0.5 mm Pitch)
pins: 1 S0 (in), 2 1A1 (io), 3 1A2 (io), 4 2A1 (io), 5 2A2 (io), 6 3A1 (io), 7 3A2 (io), 8 GND (power), 9 4A1 (io), 10 4A2 (io), 11 5A1 (io), 12 5A2 (io), 13 6A1 (io), 14 6A2 (io), 15 7A1 (io), 16 7A2 (io), 17 VDD (power), 18 8A1 (io), 19 GND (power), 20 8A2 (io), 21 9A1 (io), 22 9A2 (io), 23 10A1 (io), 24 10A2 (io), 25 11A1 (io), 26 11A2 (io), 27 12A1 (io), 28 12A2 (io), 29 12B2 (io), 30 12B1 (io), 31 11B2 (io), 32 11B1 (io), 33 10B2 (io), 34 10B1 (io), 35 9B2 (io), 36 9B1 (io), 37 8B2 (io), 38 GND (power), 39 8B1 (io), 40 7B2 (io), 41 7B1 (io), 42 6B2 (io), 43 6B1 (io), 44 5B2 (io), 45 5B1 (io), 46 4B2 (io), 47 4B1 (io), 48 3B2 (io), 49 GND (power), 50 3B1 (io), 51 2B2 (io), 52 2B1 (io), 53 1B2 (io), 54 1B1 (io), 55 S2 (in), 56 S1 (in)

## SN74CBT16213DL
designator U?
24-Bit FET Bus-Exchange Switch; Published: 8-Jun-2000; LatestRevisionDate: 16-Oct-2006; LatestRevisionNote: IPC-7351 Footprint Added.; DatasheetVersion: May-1998; PackageVersion: Dec-2001; PackageReference: DL056; Publisher: Altium Limited; PackageDescription: 56-Pin Small Outline Package 0.635 mm Pitch; Code_JEDEC: MO-118-AB; Code_IPC: SOP635P1035-56; ComponentLink1Description: Manufacturer Link; ComponentLink1URL: http://www.ti.com/; ComponentLink2Description: Datasheet; ComponentLink2URL: http://www-s.ti.com/sc/ds/sn74cbt16213.pdf
footprint DL056_N (SOP, 56-Leads, Body 18.4x7.5mm, Pitch 0.635mm, IPC Medium Density)
footprint DL056_L (SOP, 56-Leads, Body 18.4x7.5mm, Pitch 0.635mm, IPC High Density)
footprint DL056_M (SOP, 56-Leads, Body 18.4x7.5mm, Pitch 0.635mm, IPC Low Density)
3D model DL056 (56-Pin Small Outline Package 0.635 mm Pitch)
pins: 1 S0 (in), 2 1A1 (io), 3 1A2 (io), 4 2A1 (io), 5 2A2 (io), 6 3A1 (io), 7 3A2 (io), 8 GND (power), 9 4A1 (io), 10 4A2 (io), 11 5A1 (io), 12 5A2 (io), 13 6A1 (io), 14 6A2 (io), 15 7A1 (io), 16 7A2 (io), 17 VDD (power), 18 8A1 (io), 19 GND (power), 20 8A2 (io), 21 9A1 (io), 22 9A2 (io), 23 10A1 (io), 24 10A2 (io), 25 11A1 (io), 26 11A2 (io), 27 12A1 (io), 28 12A2 (io), 29 12B2 (io), 30 12B1 (io), 31 11B2 (io), 32 11B1 (io), 33 10B2 (io), 34 10B1 (io), 35 9B2 (io), 36 9B1 (io), 37 8B2 (io), 38 GND (power), 39 8B1 (io), 40 7B2 (io), 41 7B1 (io), 42 6B2 (io), 43 6B1 (io), 44 5B2 (io), 45 5B1 (io), 46 4B2 (io), 47 4B1 (io), 48 3B2 (io), 49 GND (power), 50 3B1 (io), 51 2B2 (io), 52 2B1 (io), 53 1B2 (io), 54 1B1 (io), 55 S2 (in), 56 S1 (in)

## SN74CBT16214DGGR
designator U?
12-Bit 1-of-3 FET Multiplexer/Demultiplexer; Published: 8-Jun-2000; LatestRevisionDate: 16-Oct-2006; LatestRevisionNote: IPC-7351 Footprint Added.; DatasheetVersion: May-1998; PackageVersion: Jan-1998; PackageReference: DGG056; Publisher: Altium Limited; PackageDescription: 56-Pin Thin Shrink Small Outline Package 0.5 mm Pitch; Code_IPC: TSSOP50P810-56; ComponentLink1Description: Manufacturer Link; ComponentLink1URL: http://www.ti.com/; ComponentLink2Description: Datasheet; ComponentLink2URL: http://www-s.ti.com/sc/ds/sn74cbt16214.pdf
footprint DGG056_N (TSSOP, 56-Leads, Body 14x6.1mm, Pitch 0.5mm, IPC Medium Density)
footprint DGG056_L (TSSOP, 56-Leads, Body 14x6.1mm, Pitch 0.5mm, IPC High Density)
footprint DGG056_M (TSSOP, 56-Leads, Body 14x6.1mm, Pitch 0.5mm, IPC Low Density)
3D model DGG056 (56-Pin Thin Shrink Small Outline Package 0.5 mm Pitch)
pins: 1 S0 (in), 2 1A (io), 3 1B3 (io), 4 2A (io), 5 2B3 (io), 6 3A (io), 7 3B3 (io), 8 GND (power), 9 4A (io), 10 4B3 (io), 11 5A (io), 12 5B3 (io), 13 6A (io), 14 6B3 (io), 15 7A (io), 16 7B3 (io), 17 VDD (power), 18 8A (io), 19 GND (power), 20 8B3 (io), 21 9A (io), 22 9B3 (io), 23 10A (io), 24 10B3 (io), 25 11A (io), 26 11B3 (io), 27 12A (io), 28 12B3 (io), 29 12B2 (io), 30 12B1 (io), 31 11B2 (io), 32 11B1 (io), 33 10B2 (io), 34 10B1 (io), 35 9B2 (io), 36 9B1 (io), 37 8B2 (io), 38 GND (power), 39 8B1 (io), 40 7B2 (io), 41 7B1 (io), 42 6B2 (io), 43 6B1 (io), 44 5B2 (io), 45 5B1 (io), 46 4B2 (io), 47 4B1 (io), 48 3B2 (io), 49 GND (power), 50 3B1 (io), 51 2B2 (io), 52 2B1 (io), 53 1B2 (io), 54 1B1 (io), 55 S2 (in), 56 S1 (in)

## SN74CBT16214DL
designator U?
12-Bit 1-of-3 FET Multiplexer/Demultiplexer; Published: 8-Jun-2000; LatestRevisionDate: 16-Oct-2006; LatestRevisionNote: IPC-7351 Footprint Added.; DatasheetVersion: May-1998; PackageVersion: Dec-2001; PackageReference: DL056; Publisher: Altium Limited; PackageDescription: 56-Pin Small Outline Package 0.635 mm Pitch; Code_JEDEC: MO-118-AB; Code_IPC: SOP635P1035-56; ComponentLink1Description: Manufacturer Link; ComponentLink1URL: http://www.ti.com/; ComponentLink2Description: Datasheet; ComponentLink2URL: http://www-s.ti.com/sc/ds/sn74cbt16214.pdf
footprint DL056_N (SOP, 56-Leads, Body 18.4x7.5mm, Pitch 0.635mm, IPC Medium Density)
footprint DL056_L (SOP, 56-Leads, Body 18.4x7.5mm, Pitch 0.635mm, IPC High Density)
footprint DL056_M (SOP, 56-Leads, Body 18.4x7.5mm, Pitch 0.635mm, IPC Low Density)
3D model DL056 (56-Pin Small Outline Package 0.635 mm Pitch)
pins: 1 S0 (in), 2 1A (io), 3 1B3 (io), 4 2A (io), 5 2B3 (io), 6 3A (io), 7 3B3 (io), 8 GND (power), 9 4A (io), 10 4B3 (io), 11 5A (io), 12 5B3 (io), 13 6A (io), 14 6B3 (io), 15 7A (io), 16 7B3 (io), 17 VDD (power), 18 8A (io), 19 GND (power), 20 8B3 (io), 21 9A (io), 22 9B3 (io), 23 10A (io), 24 10B3 (io), 25 11A (io), 26 11B3 (io), 27 12A (io), 28 12B3 (io), 29 12B2 (io), 30 12B1 (io), 31 11B2 (io), 32 11B1 (io), 33 10B2 (io), 34 10B1 (io), 35 9B2 (io), 36 9B1 (io), 37 8B2 (io), 38 GND (power), 39 8B1 (io), 40 7B2 (io), 41 7B1 (io), 42 6B2 (io), 43 6B1 (io), 44 5B2 (io), 45 5B1 (io), 46 4B2 (io), 47 4B1 (io), 48 3B2 (io), 49 GND (power), 50 3B1 (io), 51 2B2 (io), 52 2B1 (io), 53 1B2 (io), 54 1B1 (io), 55 S2 (in), 56 S1 (in)

## SN74CBT16232DGGR
designator U?
Synchronous 16-Bit 1-of-2 FET Multiplexer/Demultiplexer; Published: 8-Jun-2000; LatestRevisionDate: 16-Oct-2006; LatestRevisionNote: IPC-7351 Footprint Added.; DatasheetVersion: May-1999; PackageVersion: Jan-1998; PackageReference: DGG056; Publisher: Altium Limited; PackageDescription: 56-Pin Thin Shrink Small Outline Package 0.5 mm Pitch; Code_IPC: TSSOP50P810-56; ComponentLink1Description: Manufacturer Link; ComponentLink1URL: http://www.ti.com/; ComponentLink2Description: Datasheet; ComponentLink2URL: http://www-s.ti.com/sc/ds/sn74cbt16232.pdf
footprint DGG056_N (TSSOP, 56-Leads, Body 14x6.1mm, Pitch 0.5mm, IPC Medium Density)
footprint DGG056_L (TSSOP, 56-Leads, Body 14x6.1mm, Pitch 0.5mm, IPC High Density)
footprint DGG056_M (TSSOP, 56-Leads, Body 14x6.1mm, Pitch 0.5mm, IPC Low Density)
3D model DGG056 (56-Pin Thin Shrink Small Outline Package 0.5 mm Pitch)
pins: 1 1A (io), 2 2B1 (io), 3 2B2 (io), 4 3A (io), 5 4B1 (io), 6 4B2 (io), 7 5A (io), 8 6B1 (io), 9 6B2 (io), 10 7A (io), 11 8B1 (io), 12 8B2 (io), 13 GND (power), 14 VDD (power), 15 9A (io), 16 10B1 (io), 17 10B2 (io), 18 11A (io), 19 12B1 (io), 20 12B2 (io), 21 13A (io), 22 14B1 (io), 23 14B2 (io), 24 15A (io), 25 16B1 (io), 26 16B2 (io), 27 CLK (in), 28 ~{CLKEN} (in), 29 S1 (in), 30 S0 (in), 31 16A (io), 32 15B2 (io), 33 15B1 (io), 34 14A (io), 35 13B2 (io), 36 13B1 (io), 37 12A (io), 38 11B2 (io), 39 11B1 (io), 40 10A (io), 41 9B2 (io), 42 9B1 (io), 43 VDD (power), 44 GND (power), 45 8A (io), 46 7B2 (io), 47 7B1 (io), 48 6A (io), 49 5B2 (io), 50 5B1 (io), 51 4A (io), 52 3B2 (io), 53 3B1 (io), 54 2A (io), 55 1B2 (io), 56 1B1 (io)

## SN74CBT16232DL
designator U?
Synchronous 16-Bit 1-of-2 FET Multiplexer/Demultiplexer; Published: 8-Jun-2000; LatestRevisionDate: 16-Oct-2006; LatestRevisionNote: IPC-7351 Footprint Added.; DatasheetVersion: May-1999; PackageVersion: Dec-2001; PackageReference: DL056; Publisher: Altium Limited; PackageDescription: 56-Pin Small Outline Package 0.635 mm Pitch; Code_JEDEC: MO-118-AB; Code_IPC: SOP635P1035-56; ComponentLink1Description: Manufacturer Link; ComponentLink1URL: http://www.ti.com/; ComponentLink2Description: Datasheet; ComponentLink2URL: http://www-s.ti.com/sc/ds/sn74cbt16232.pdf
footprint DL056_N (SOP, 56-Leads, Body 18.4x7.5mm, Pitch 0.635mm, IPC Medium Density)
footprint DL056_L (SOP, 56-Leads, Body 18.4x7.5mm, Pitch 0.635mm, IPC High Density)
footprint DL056_M (SOP, 56-Leads, Body 18.4x7.5mm, Pitch 0.635mm, IPC Low Density)
3D model DL056 (56-Pin Small Outline Package 0.635 mm Pitch)
pins: 1 1A (io), 2 2B1 (io), 3 2B2 (io), 4 3A (io), 5 4B1 (io), 6 4B2 (io), 7 5A (io), 8 6B1 (io), 9 6B2 (io), 10 7A (io), 11 8B1 (io), 12 8B2 (io), 13 GND (power), 14 VDD (power), 15 9A (io), 16 10B1 (io), 17 10B2 (io), 18 11A (io), 19 12B1 (io), 20 12B2 (io), 21 13A (io), 22 14B1 (io), 23 14B2 (io), 24 15A (io), 25 16B1 (io), 26 16B2 (io), 27 CLK (in), 28 ~{CLKEN} (in), 29 S1 (in), 30 S0 (in), 31 16A (io), 32 15B2 (io), 33 15B1 (io), 34 14A (io), 35 13B2 (io), 36 13B1 (io), 37 12A (io), 38 11B2 (io), 39 11B1 (io), 40 10A (io), 41 9B2 (io), 42 9B1 (io), 43 VDD (power), 44 GND (power), 45 8A (io), 46 7B2 (io), 47 7B1 (io), 48 6A (io), 49 5B2 (io), 50 5B1 (io), 51 4A (io), 52 3B2 (io), 53 3B1 (io), 54 2A (io), 55 1B2 (io), 56 1B1 (io)

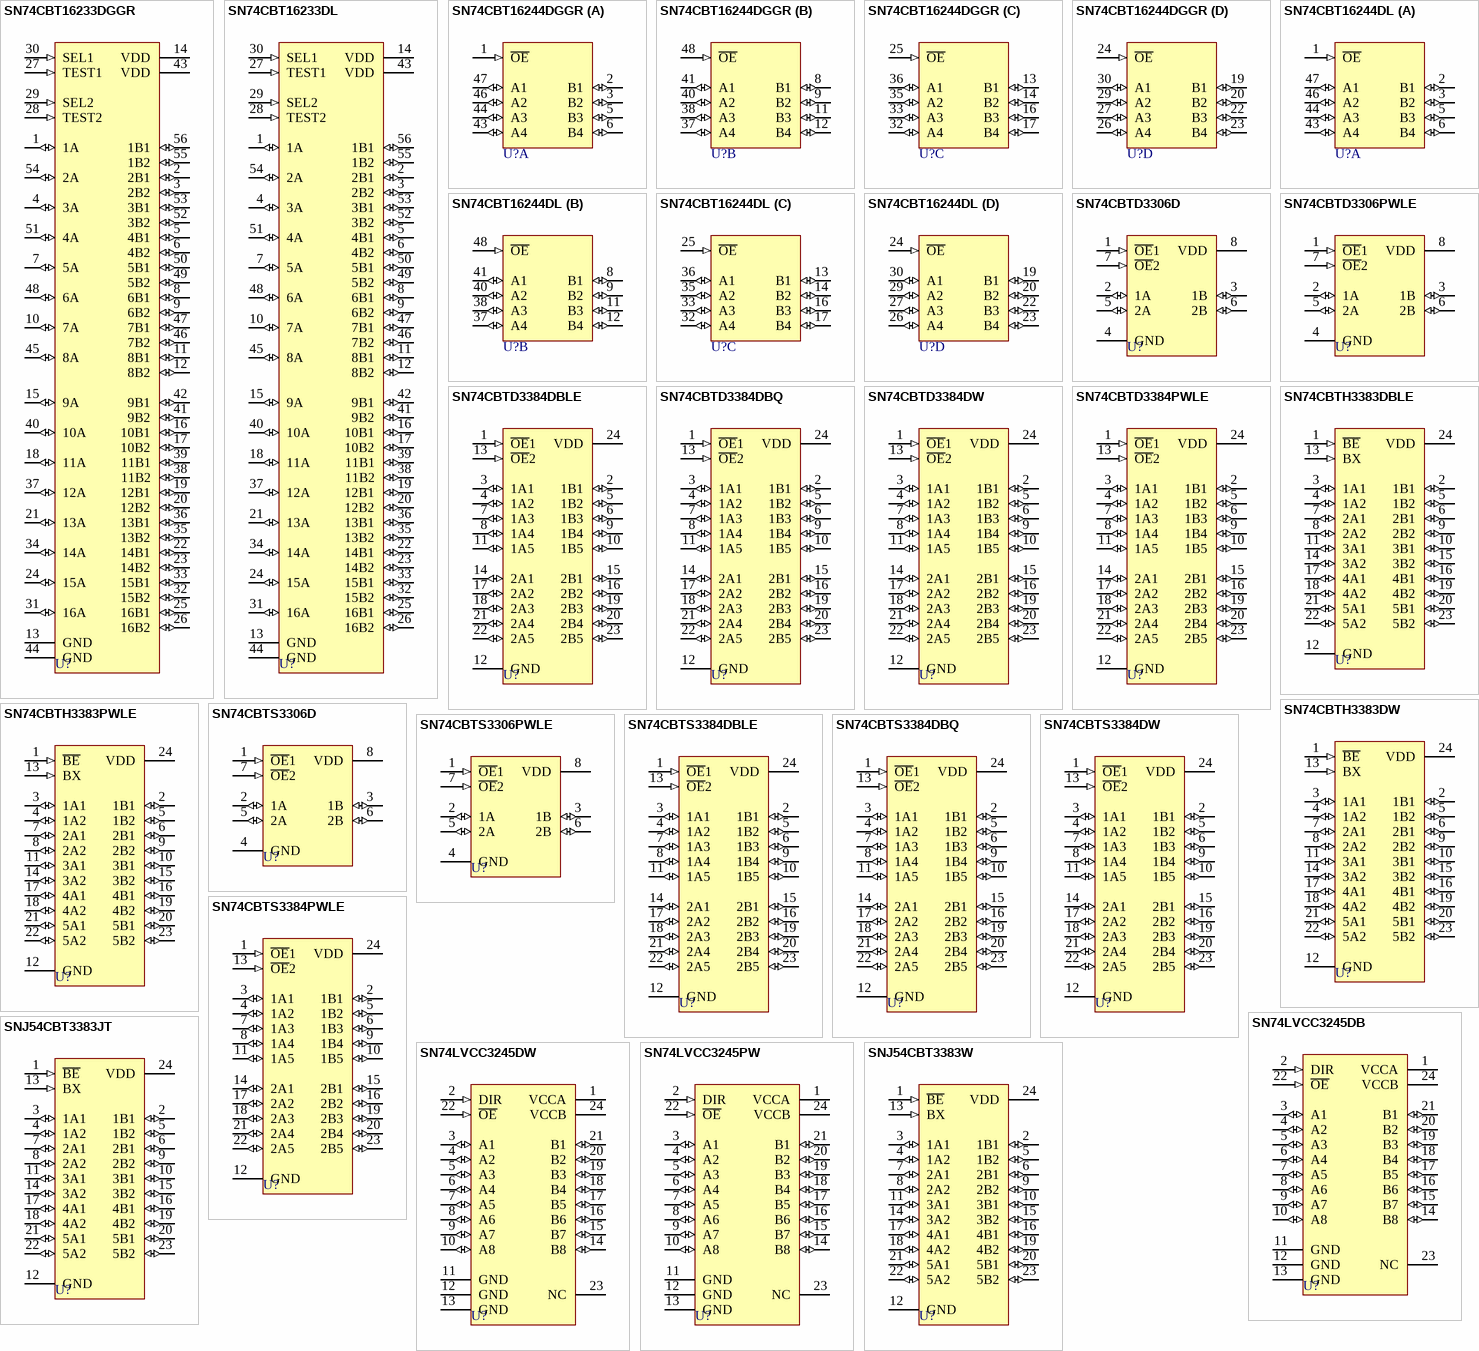
[diagram p3: symbols SN74CBT16233DGGR to SNJ54CBT3383W]

## SN74CBT16233DGGR
designator U?
16-Bit 1-of-2 FET Multiplexer/Demultiplexer; Published: 8-Jun-2000; LatestRevisionDate: 16-Oct-2006; LatestRevisionNote: IPC-7351 Footprint Added.; DatasheetVersion: Oct-1998; PackageVersion: Jan-1998; PackageReference: DGG056; Publisher: Altium Limited; PackageDescription: 56-Pin Thin Shrink Small Outline Package 0.5 mm Pitch; Code_IPC: TSSOP50P810-56; ComponentLink1Description: Manufacturer Link; ComponentLink1URL: http://www.ti.com/; ComponentLink2Description: Datasheet; ComponentLink2URL: http://www-s.ti.com/sc/ds/sn74cbt16233.pdf
footprint DGG056_N (TSSOP, 56-Leads, Body 14x6.1mm, Pitch 0.5mm, IPC Medium Density)
footprint DGG056_L (TSSOP, 56-Leads, Body 14x6.1mm, Pitch 0.5mm, IPC High Density)
footprint DGG056_M (TSSOP, 56-Leads, Body 14x6.1mm, Pitch 0.5mm, IPC Low Density)
3D model DGG056 (56-Pin Thin Shrink Small Outline Package 0.5 mm Pitch)
pins: 1 1A (io), 2 2B1 (io), 3 2B2 (io), 4 3A (io), 5 4B1 (io), 6 4B2 (io), 7 5A (io), 8 6B1 (io), 9 6B2 (io), 10 7A (io), 11 8B1 (io), 12 8B2 (io), 13 GND (power), 14 VDD (power), 15 9A (io), 16 10B1 (io), 17 10B2 (io), 18 11A (io), 19 12B1 (io), 20 12B2 (io), 21 13A (io), 22 14B1 (io), 23 14B2 (io), 24 15A (io), 25 16B1 (io), 26 16B2 (io), 27 TEST1 (in), 28 TEST2 (in), 29 SEL2 (in), 30 SEL1 (in), 31 16A (io), 32 15B2 (io), 33 15B1 (io), 34 14A (io), 35 13B2 (io), 36 13B1 (io), 37 12A (io), 38 11B2 (io), 39 11B1 (io), 40 10A (io), 41 9B2 (io), 42 9B1 (io), 43 VDD (power), 44 GND (power), 45 8A (io), 46 7B2 (io), 47 7B1 (io), 48 6A (io), 49 5B2 (io), 50 5B1 (io), 51 4A (io), 52 3B2 (io), 53 3B1 (io), 54 2A (io), 55 1B2 (io), 56 1B1 (io)

## SN74CBT16233DL
designator U?
16-Bit 1-of-2 FET Multiplexer/Demultiplexer; Published: 8-Jun-2000; LatestRevisionDate: 16-Oct-2006; LatestRevisionNote: IPC-7351 Footprint Added.; DatasheetVersion: Oct-1998; PackageVersion: Dec-2001; PackageReference: DL056; Publisher: Altium Limited; PackageDescription: 56-Pin Small Outline Package 0.635 mm Pitch; Code_JEDEC: MO-118-AB; Code_IPC: SOP635P1035-56; ComponentLink1Description: Manufacturer Link; ComponentLink1URL: http://www.ti.com/; ComponentLink2Description: Datasheet; ComponentLink2URL: http://www-s.ti.com/sc/ds/sn74cbt16233.pdf
footprint DL056_N (SOP, 56-Leads, Body 18.4x7.5mm, Pitch 0.635mm, IPC Medium Density)
footprint DL056_L (SOP, 56-Leads, Body 18.4x7.5mm, Pitch 0.635mm, IPC High Density)
footprint DL056_M (SOP, 56-Leads, Body 18.4x7.5mm, Pitch 0.635mm, IPC Low Density)
3D model DL056 (56-Pin Small Outline Package 0.635 mm Pitch)
pins: 1 1A (io), 2 2B1 (io), 3 2B2 (io), 4 3A (io), 5 4B1 (io), 6 4B2 (io), 7 5A (io), 8 6B1 (io), 9 6B2 (io), 10 7A (io), 11 8B1 (io), 12 8B2 (io), 13 GND (power), 14 VDD (power), 15 9A (io), 16 10B1 (io), 17 10B2 (io), 18 11A (io), 19 12B1 (io), 20 12B2 (io), 21 13A (io), 22 14B1 (io), 23 14B2 (io), 24 15A (io), 25 16B1 (io), 26 16B2 (io), 27 TEST1 (in), 28 TEST2 (in), 29 SEL2 (in), 30 SEL1 (in), 31 16A (io), 32 15B2 (io), 33 15B1 (io), 34 14A (io), 35 13B2 (io), 36 13B1 (io), 37 12A (io), 38 11B2 (io), 39 11B1 (io), 40 10A (io), 41 9B2 (io), 42 9B1 (io), 43 VDD (power), 44 GND (power), 45 8A (io), 46 7B2 (io), 47 7B1 (io), 48 6A (io), 49 5B2 (io), 50 5B1 (io), 51 4A (io), 52 3B2 (io), 53 3B1 (io), 54 2A (io), 55 1B2 (io), 56 1B1 (io)

## SN74CBT16244DGGR
designator U?
16-Bit FET Bus Switch; Published: 8-Jun-2000; LatestRevisionDate: 16-Oct-2006; LatestRevisionNote: IPC-7351 Footprint Added.; DatasheetVersion: Sep-1998; PackageVersion: Jan-1998; PackageReference: DGG048; Publisher: Altium Limited; PackageDescription: 48-Pin Thin Shrink Small Outline Package 0.5 mm Pitch; ComponentLink1Description: Manufacturer Link; ComponentLink1URL: http://www.ti.com/; ComponentLink2Description: Datasheet; ComponentLink2URL: http://www-s.ti.com/sc/ds/sn74cbt16244.pdf
footprint DGG048_N (TSSOP, 48-Leads, Body 12.5x6.1mm, Pitch 0.5mm, IPC Medium Density)
footprint DGG048_L (TSSOP, 48-Leads, Body 12.5x6.1mm, Pitch 0.5mm, IPC High Density)
footprint DGG048_M (TSSOP, 48-Leads, Body 12.5x6.1mm, Pitch 0.5mm, IPC Low Density)
3D model DGG048 (48-Pin Thin Shrink Small Outline Package 0.5 mm Pitch)
pins on every part: 4 GND (power) hidden to GND, 7 VDD (power) hidden to VDD, 10 GND (power) hidden to GND, 15 GND (power) hidden to GND, 18 VDD (power) hidden to VDD, 21 GND (power) hidden to GND, 28 GND (power) hidden to GND, 31 VDD (power) hidden to VDD, 34 GND (power) hidden to GND, 39 GND (power) hidden to GND, 42 VDD (power) hidden to VDD, 45 GND (power) hidden to GND
part A pins: 1 ~{OE} (in), 2 B1 (io), 3 B2 (io), 5 B3 (io), 6 B4 (io), 43 A4 (io), 44 A3 (io), 46 A2 (io), 47 A1 (io)
part B pins: 8 B1 (io), 9 B2 (io), 11 B3 (io), 12 B4 (io), 37 A4 (io), 38 A3 (io), 40 A2 (io), 41 A1 (io), 48 ~{OE} (in)
part C pins: 13 B1 (io), 14 B2 (io), 16 B3 (io), 17 B4 (io), 25 ~{OE} (in), 32 A4 (io), 33 A3 (io), 35 A2 (io), 36 A1 (io)
part D pins: 19 B1 (io), 20 B2 (io), 22 B3 (io), 23 B4 (io), 24 ~{OE} (in), 26 A4 (io), 27 A3 (io), 29 A2 (io), 30 A1 (io)

## SN74CBT16244DL
designator U?
16-Bit FET Bus Switch; Published: 8-Jun-2000; LatestRevisionDate: 16-Oct-2006; LatestRevisionNote: IPC-7351 Footprint Added.; DatasheetVersion: Sep-1998; PackageVersion: Dec-2001; PackageReference: DL048; Publisher: Altium Limited; PackageDescription: 48-Pin Small Outline Package 0.635 mm Pitch; Code_JEDEC: MO-118-AA; Code_IPC: SOP635P1035-48; ComponentLink1Description: Manufacturer Link; ComponentLink1URL: http://www.ti.com/; ComponentLink2Description: Datasheet; ComponentLink2URL: http://www-s.ti.com/sc/ds/sn74cbt16244.pdf
footprint DL048_N (SOP, 48-Leads, Body 15.9x7.5mm, Pitch 0.635mm, IPC Medium Density)
footprint DL048_L (SOP, 48-Leads, Body 15.9x7.5mm, Pitch 0.635mm, IPC High Density)
footprint DL048_M (SOP, 48-Leads, Body 15.9x7.5mm, Pitch 0.635mm, IPC Low Density)
3D model DL048 (48-Pin Small Outline Package 0.635 mm Pitch)
pins on every part: 4 GND (power) hidden to GND, 7 VDD (power) hidden to VDD, 10 GND (power) hidden to GND, 15 GND (power) hidden to GND, 18 VDD (power) hidden to VDD, 21 GND (power) hidden to GND, 28 GND (power) hidden to GND, 31 VDD (power) hidden to VDD, 34 GND (power) hidden to GND, 39 GND (power) hidden to GND, 42 VDD (power) hidden to VDD, 45 GND (power) hidden to GND
part A pins: 1 ~{OE} (in), 2 B1 (io), 3 B2 (io), 5 B3 (io), 6 B4 (io), 43 A4 (io), 44 A3 (io), 46 A2 (io), 47 A1 (io)
part B pins: 8 B1 (io), 9 B2 (io), 11 B3 (io), 12 B4 (io), 37 A4 (io), 38 A3 (io), 40 A2 (io), 41 A1 (io), 48 ~{OE} (in)
part C pins: 13 B1 (io), 14 B2 (io), 16 B3 (io), 17 B4 (io), 25 ~{OE} (in), 32 A4 (io), 33 A3 (io), 35 A2 (io), 36 A1 (io)
part D pins: 19 B1 (io), 20 B2 (io), 22 B3 (io), 23 B4 (io), 24 ~{OE} (in), 26 A4 (io), 27 A3 (io), 29 A2 (io), 30 A1 (io)

## SN74CBTD3306D
designator U?
Dual FET Bus Switch with Level Shifting; Published: 8-Jun-2000; LatestRevisionDate: 13-Apr-2006; LatestRevisionNote: IPC-7351 Footprint Added.; DatasheetVersion: May-1998; PackageVersion: Jan-1998; PackageReference: D008; Publisher: Altium Limited; PackageDescription: 8-Pin Small Outline Integrated Circuit 1.27 mm Pitch; Code_IPC: SOIC127P600-8; ComponentLink1Description: Manufacturer Link; ComponentLink1URL: http://www.ti.com/; ComponentLink2Description: Datasheet; ComponentLink2URL: http://www-s.ti.com/sc/ds/sn74cbtd3306.pdf
footprint D008_N (SOIC, 8-Leads, Body 4.9x3.9mm, Pitch 1.27mm, IPC Medium Density)
footprint D008_L (SOIC, 8-Leads, Body 4.9x3.9mm, Pitch 1.27mm, IPC High Density)
footprint D008_M (SOIC, 8-Leads, Body 4.9x3.9mm, Pitch 1.27mm, IPC Low Density)
3D model D008 (8-Pin Small Outline Integrated Circuit 1.27 mm Pitch)
pins: 1 ~{OE}1 (in), 2 1A (io), 3 1B (io), 4 GND (power), 5 2A (io), 6 2B (io), 7 ~{OE}2 (in), 8 VDD (power)

## SN74CBTD3306PWLE
designator U?
Dual FET Bus Switch with Level Shifting; ComponentAvailability: Obsolete; Published: 8-Jun-2000; LatestRevisionDate: 16-Oct-2006; LatestRevisionNote: IPC-7351 Footprint Added.; DatasheetVersion: May-1998; PackageVersion: Feb-1999; PackageReference: PW008; Publisher: Altium Limited; PackageDescription: 8-Pin Small Outline Package 0.65 mm Pitch; Code_JEDEC: MO-153; ComponentLink1Description: Manufacturer Link; ComponentLink1URL: http://www.ti.com/; ComponentLink2Description: Datasheet; ComponentLink2URL: http://www-s.ti.com/sc/ds/sn74cbtd3306.pdf
footprint PW008_N (SOP, 8-Leads, Body 3x4.4mm, Pitch 0.65mm, IPC Medium Density)
footprint PW008_L (SOP, 8-Leads, Body 3x4.4mm, Pitch 0.65mm, IPC High Density)
footprint PW008_M (SOP, 8-Leads, Body 3x4.4mm, Pitch 0.65mm, IPC Low Density)
3D model PW008 (8-Pin Small Outline Package 0.65 mm Pitch)
pins: 1 ~{OE}1 (in), 2 1A (io), 3 1B (io), 4 GND (power), 5 2A (io), 6 2B (io), 7 ~{OE}2 (in), 8 VDD (power)

## SN74CBTD3384DBLE
designator U?
10-Bit FET Bus Switch with Level Shifting; ComponentAvailability: Obsolete; Published: 8-Jun-2000; LatestRevisionDate: 16-Oct-2006; LatestRevisionNote: IPC-7351 Footprint Added.; DatasheetVersion: Nov-1998; PackageVersion: May-1999; PackageReference: DB024; Publisher: Altium Limited; PackageDescription: 24-Pin Plastic Small Outline Package 0.65 mm Pitch; Code_JEDEC: MO-150-AG; Code_IPC: SOP65P780-24; ComponentLink1Description: Manufacturer Link; ComponentLink1URL: http://www.ti.com/; ComponentLink2Description: Datasheet; ComponentLink2URL: http://www-s.ti.com/sc/ds/sn74cbtd3384.pdf
footprint DB024_N (SOP, 24-Leads, Body 8.2x5.3mm, Pitch 0.65mm, IPC Medium Density)
footprint DB024_L (SOP, 24-Leads, Body 8.2x5.3mm, Pitch 0.65mm, IPC High Density)
footprint DB024_M (SOP, 24-Leads, Body 8.2x5.3mm, Pitch 0.65mm, IPC Low Density)
3D model DB024 (24-Pin Plastic Small Outline Package 0.65 mm Pitch)
pins: 1 ~{OE}1 (in), 2 1B1 (io), 3 1A1 (io), 4 1A2 (io), 5 1B2 (io), 6 1B3 (io), 7 1A3 (io), 8 1A4 (io), 9 1B4 (io), 10 1B5 (io), 11 1A5 (io), 12 GND (power), 13 ~{OE}2 (in), 14 2A1 (io), 15 2B1 (io), 16 2B2 (io), 17 2A2 (io), 18 2A3 (io), 19 2B3 (io), 20 2B4 (io), 21 2A4 (io), 22 2A5 (io), 23 2B5 (io), 24 VDD (power)

## SN74CBTD3384DBQ
designator U?
10-Bit FET Bus Switch with Level Shifting; Published: 8-Jun-2000; LatestRevisionDate: 16-Oct-2006; LatestRevisionNote: IPC-7351 Footprint Added.; DatasheetVersion: Nov-1998; PackageVersion: Jan-1999; PackageReference: DBQ024; Publisher: Altium Limited; PackageDescription: 24-Pin Small Outline Package 0.635 mm Pitch; ComponentLink1Description: Manufacturer Link; ComponentLink1URL: http://www.ti.com/; ComponentLink2Description: Datasheet; ComponentLink2URL: http://www-s.ti.com/sc/ds/sn74cbtd3384.pdf
footprint DBQ024_N (SOP, 24-Leads, Body 8.7x3.9mm, Pitch 0.635mm, IPC Medium Density)
footprint DBQ024_L (SOP, 24-Leads, Body 8.7x3.9mm, Pitch 0.635mm, IPC High Density)
footprint DBQ024_M (SOP, 24-Leads, Body 8.7x3.9mm, Pitch 0.635mm, IPC Low Density)
3D model DBQ024 (24-Pin Small Outline Package 0.635 mm Pitch)
pins: 1 ~{OE}1 (in), 2 1B1 (io), 3 1A1 (io), 4 1A2 (io), 5 1B2 (io), 6 1B3 (io), 7 1A3 (io), 8 1A4 (io), 9 1B4 (io), 10 1B5 (io), 11 1A5 (io), 12 GND (power), 13 ~{OE}2 (in), 14 2A1 (io), 15 2B1 (io), 16 2B2 (io), 17 2A2 (io), 18 2A3 (io), 19 2B3 (io), 20 2B4 (io), 21 2A4 (io), 22 2A5 (io), 23 2B5 (io), 24 VDD (power)

## SN74CBTD3384DW
designator U?
10-Bit FET Bus Switch with Level Shifting; Published: 8-Jun-2000; LatestRevisionDate: 13-Apr-2006; LatestRevisionNote: IPC-7351 Footprint Added.; DatasheetVersion: Nov-1998; PackageVersion: Mar-2000; PackageReference: DW024; Publisher: Altium Limited; PackageDescription: 24-Pin Plastic Small Outline Integrated Circuit 1.27 mm Pitch; Code_JEDEC: MS-013; ComponentLink1Description: Manufacturer Link; ComponentLink1URL: http://www.ti.com/; ComponentLink2Description: Datasheet; ComponentLink2URL: http://www-s.ti.com/sc/ds/sn74cbtd3384.pdf
footprint DW024_N (SOIC, 24-Leads, Body 15.4x7.5mm, Pitch 1.27mm, IPC Medium Density)
footprint DW024_L (SOIC, 24-Leads, Body 15.4x7.5mm, Pitch 1.27mm, IPC High Density)
footprint DW024_M (SOIC, 24-Leads, Body 15.4x7.5mm, Pitch 1.27mm, IPC Low Density)
3D model DW024 (24-Pin Plastic Small Outline Integrated Circuit 1.27 mm Pitch)
pins: 1 ~{OE}1 (in), 2 1B1 (io), 3 1A1 (io), 4 1A2 (io), 5 1B2 (io), 6 1B3 (io), 7 1A3 (io), 8 1A4 (io), 9 1B4 (io), 10 1B5 (io), 11 1A5 (io), 12 GND (power), 13 ~{OE}2 (in), 14 2A1 (io), 15 2B1 (io), 16 2B2 (io), 17 2A2 (io), 18 2A3 (io), 19 2B3 (io), 20 2B4 (io), 21 2A4 (io), 22 2A5 (io), 23 2B5 (io), 24 VDD (power)

## SN74CBTD3384PWLE
designator U?
10-Bit FET Bus Switch with Level Shifting; ComponentAvailability: Obsolete; Published: 8-Jun-2000; LatestRevisionDate: 16-Oct-2006; LatestRevisionNote: IPC-7351 Footprint Added.; DatasheetVersion: Nov-1998; PackageVersion: Feb-1999; PackageReference: PW024; Publisher: Altium Limited; PackageDescription: 24-Pin Thin Small Outline Package 0.65 mm Pitch; ComponentLink1Description: Manufacturer Link; ComponentLink1URL: http://www.ti.com/; ComponentLink2Description: Datasheet; ComponentLink2URL: http://www-s.ti.com/sc/ds/sn74cbtd3384.pdf
footprint PW024_N (TSOP, 24-Leads, Body 7.8x4.4mm, Pitch 0.65mm, IPC Medium Density)
footprint PW024_L (TSOP, 24-Leads, Body 7.8x4.4mm, Pitch 0.65mm, IPC High Density)
footprint PW024_M (TSOP, 24-Leads, Body 7.8x4.4mm, Pitch 0.65mm, IPC Low Density)
3D model PW024 (24-Pin Thin Small Outline Package 0.65 mm Pitch)
pins: 1 ~{OE}1 (in), 2 1B1 (io), 3 1A1 (io), 4 1A2 (io), 5 1B2 (io), 6 1B3 (io), 7 1A3 (io), 8 1A4 (io), 9 1B4 (io), 10 1B5 (io), 11 1A5 (io), 12 GND (power), 13 ~{OE}2 (in), 14 2A1 (io), 15 2B1 (io), 16 2B2 (io), 17 2A2 (io), 18 2A3 (io), 19 2B3 (io), 20 2B4 (io), 21 2A4 (io), 22 2A5 (io), 23 2B5 (io), 24 VDD (power)

## SN74CBTH3383DBLE
designator U?
10-Bit FET Bus-Exchange Switch with Bus Hold; Published: 8-Jun-2000; LatestRevisionDate: 16-Oct-2006; LatestRevisionNote: IPC-7351 Footprint Added.; DatasheetVersion: Oct-1998; PackageVersion: May-1999; PackageReference: DB024; Publisher: Altium Limited; PackageDescription: 24-Pin Plastic Small Outline Package 0.65 mm Pitch; Code_JEDEC: MO-150-AG; Code_IPC: SOP65P780-24; ComponentLink1Description: Manufacturer Link; ComponentLink1URL: http://www.ti.com/
footprint DB024_N (SOP, 24-Leads, Body 8.2x5.3mm, Pitch 0.65mm, IPC Medium Density)
footprint DB024_L (SOP, 24-Leads, Body 8.2x5.3mm, Pitch 0.65mm, IPC High Density)
footprint DB024_M (SOP, 24-Leads, Body 8.2x5.3mm, Pitch 0.65mm, IPC Low Density)
3D model DB024 (24-Pin Plastic Small Outline Package 0.65 mm Pitch)
pins: 1 ~{BE} (in), 2 1B1 (io), 3 1A1 (io), 4 1A2 (io), 5 1B2 (io), 6 2B1 (io), 7 2A1 (io), 8 2A2 (io), 9 2B2 (io), 10 3B1 (io), 11 3A1 (io), 12 GND (power), 13 BX (in), 14 3A2 (io), 15 3B2 (io), 16 4B1 (io), 17 4A1 (io), 18 4A2 (io), 19 4B2 (io), 20 5B1 (io), 21 5A1 (io), 22 5A2 (io), 23 5B2 (io), 24 VDD (power)

## SN74CBTH3383DW
designator U?
10-Bit FET Bus-Exchange Switch with Bus Hold; Published: 8-Jun-2000; LatestRevisionDate: 13-Apr-2006; LatestRevisionNote: IPC-7351 Footprint Added.; DatasheetVersion: Oct-1998; PackageVersion: Mar-2000; PackageReference: DW024; Publisher: Altium Limited; PackageDescription: 24-Pin Plastic Small Outline Integrated Circuit 1.27 mm Pitch; Code_JEDEC: MS-013; ComponentLink1Description: Manufacturer Link; ComponentLink1URL: http://www.ti.com/
footprint DW024_N (SOIC, 24-Leads, Body 15.4x7.5mm, Pitch 1.27mm, IPC Medium Density)
footprint DW024_L (SOIC, 24-Leads, Body 15.4x7.5mm, Pitch 1.27mm, IPC High Density)
footprint DW024_M (SOIC, 24-Leads, Body 15.4x7.5mm, Pitch 1.27mm, IPC Low Density)
3D model DW024 (24-Pin Plastic Small Outline Integrated Circuit 1.27 mm Pitch)
pins: 1 ~{BE} (in), 2 1B1 (io), 3 1A1 (io), 4 1A2 (io), 5 1B2 (io), 6 2B1 (io), 7 2A1 (io), 8 2A2 (io), 9 2B2 (io), 10 3B1 (io), 11 3A1 (io), 12 GND (power), 13 BX (in), 14 3A2 (io), 15 3B2 (io), 16 4B1 (io), 17 4A1 (io), 18 4A2 (io), 19 4B2 (io), 20 5B1 (io), 21 5A1 (io), 22 5A2 (io), 23 5B2 (io), 24 VDD (power)

## SN74CBTH3383PWLE
designator U?
10-Bit FET Bus-Exchange Switch with Bus Hold; Published: 8-Jun-2000; LatestRevisionDate: 16-Oct-2006; LatestRevisionNote: IPC-7351 Footprint Added.; DatasheetVersion: Oct-1998; PackageVersion: Feb-1999; PackageReference: PW024; Publisher: Altium Limited; PackageDescription: 24-Pin Thin Small Outline Package 0.65 mm Pitch; ComponentLink1Description: Manufacturer Link; ComponentLink1URL: http://www.ti.com/
footprint PW024_N (TSOP, 24-Leads, Body 7.8x4.4mm, Pitch 0.65mm, IPC Medium Density)
footprint PW024_L (TSOP, 24-Leads, Body 7.8x4.4mm, Pitch 0.65mm, IPC High Density)
footprint PW024_M (TSOP, 24-Leads, Body 7.8x4.4mm, Pitch 0.65mm, IPC Low Density)
3D model PW024 (24-Pin Thin Small Outline Package 0.65 mm Pitch)
pins: 1 ~{BE} (in), 2 1B1 (io), 3 1A1 (io), 4 1A2 (io), 5 1B2 (io), 6 2B1 (io), 7 2A1 (io), 8 2A2 (io), 9 2B2 (io), 10 3B1 (io), 11 3A1 (io), 12 GND (power), 13 BX (in), 14 3A2 (io), 15 3B2 (io), 16 4B1 (io), 17 4A1 (io), 18 4A2 (io), 19 4B2 (io), 20 5B1 (io), 21 5A1 (io), 22 5A2 (io), 23 5B2 (io), 24 VDD (power)

## SN74CBTS3306D
designator U?
Dual FET Bus Switch with Schottky Diode Clamping; Published: 8-Jun-2000; LatestRevisionDate: 13-Apr-2006; LatestRevisionNote: IPC-7351 Footprint Added.; DatasheetVersion: Nov-1998; PackageVersion: Jan-1998; PackageReference: D008; Publisher: Altium Limited; PackageDescription: 8-Pin Small Outline Integrated Circuit 1.27 mm Pitch; Code_IPC: SOIC127P600-8; ComponentLink1Description: Manufacturer Link; ComponentLink1URL: http://www.ti.com/; ComponentLink2Description: Datasheet; ComponentLink2URL: http://www-s.ti.com/sc/ds/sn74cbts3306.pdf
footprint D008_N (SOIC, 8-Leads, Body 4.9x3.9mm, Pitch 1.27mm, IPC Medium Density)
footprint D008_L (SOIC, 8-Leads, Body 4.9x3.9mm, Pitch 1.27mm, IPC High Density)
footprint D008_M (SOIC, 8-Leads, Body 4.9x3.9mm, Pitch 1.27mm, IPC Low Density)
3D model D008 (8-Pin Small Outline Integrated Circuit 1.27 mm Pitch)
pins: 1 ~{OE}1 (in), 2 1A (io), 3 1B (io), 4 GND (power), 5 2A (io), 6 2B (io), 7 ~{OE}2 (in), 8 VDD (power)